# Altium schematic symbol library ic-soc-cpu.SchLib: 3 symbols
Pins are listed as number, name and electrical type; pins without a type are passive.

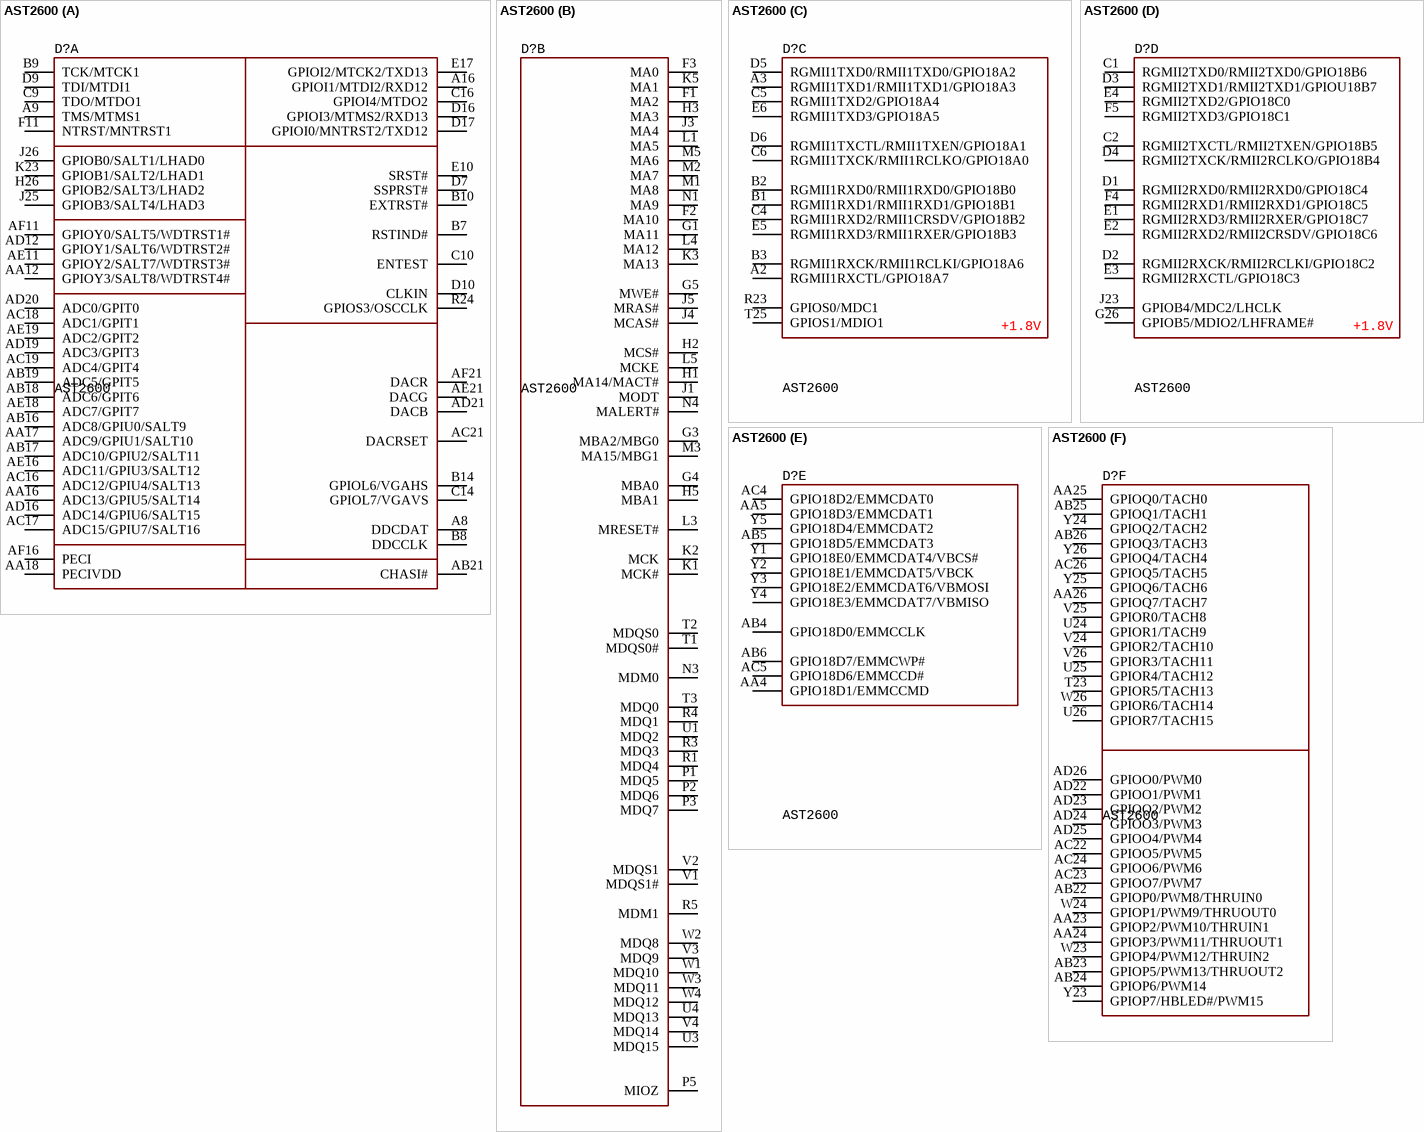
[diagram p0: symbol AST2600]

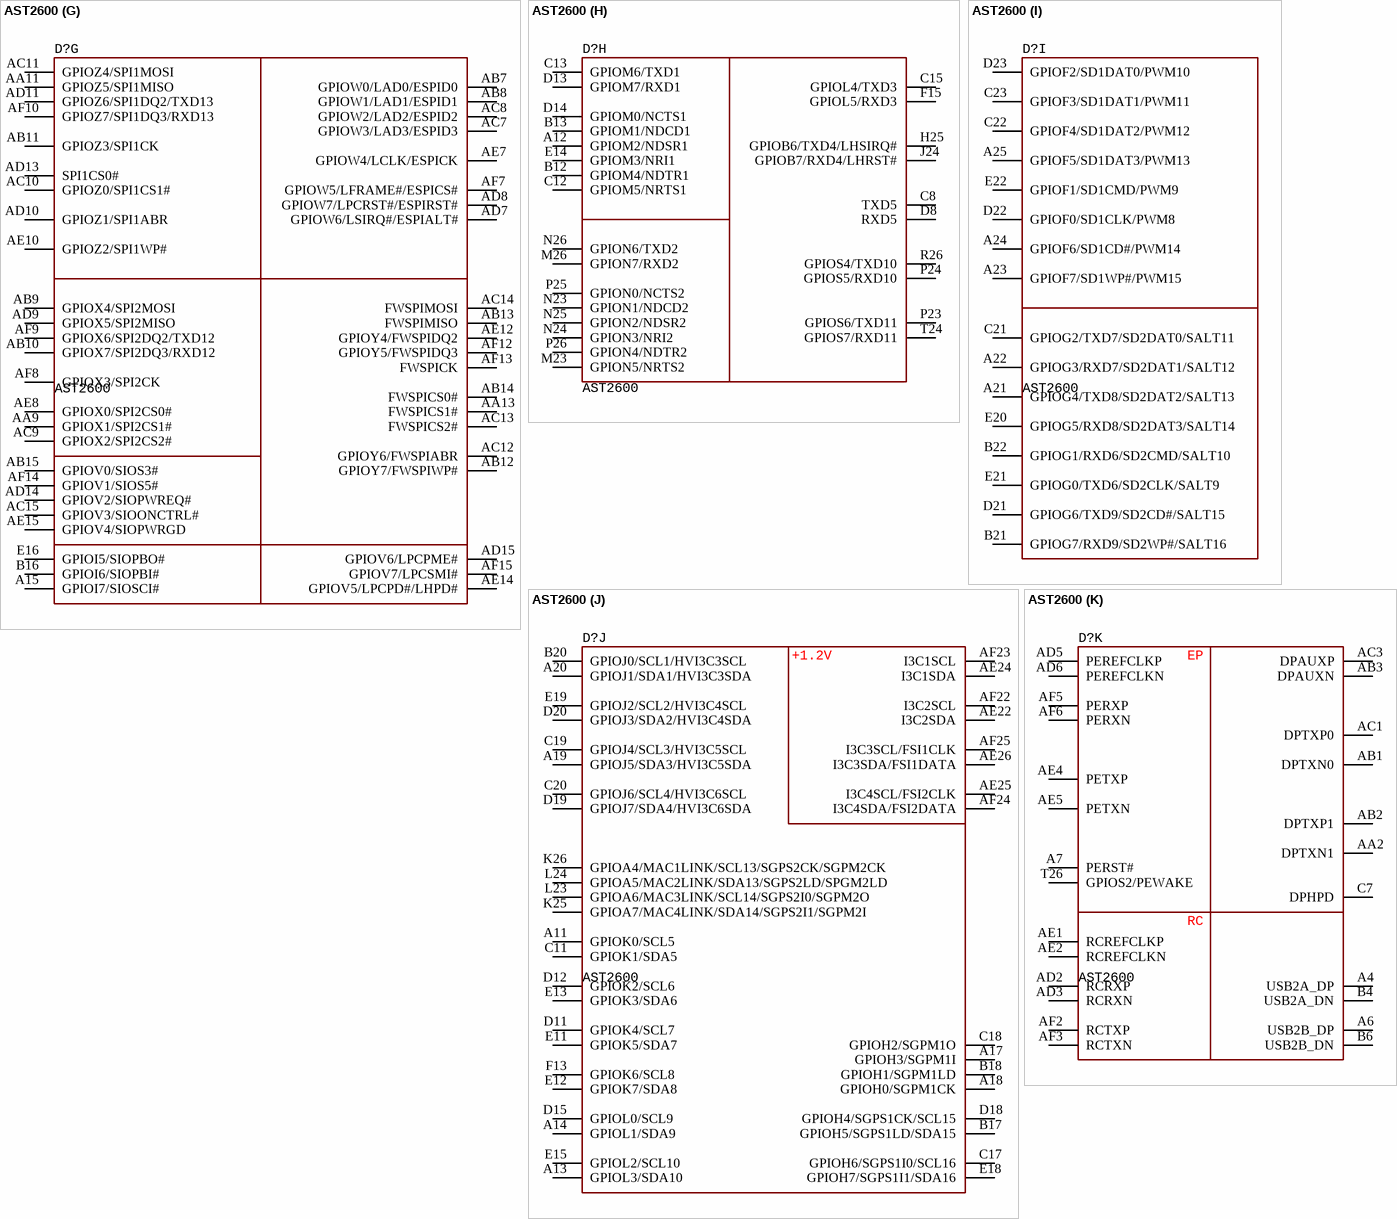
[diagram p1: symbol AST2600]

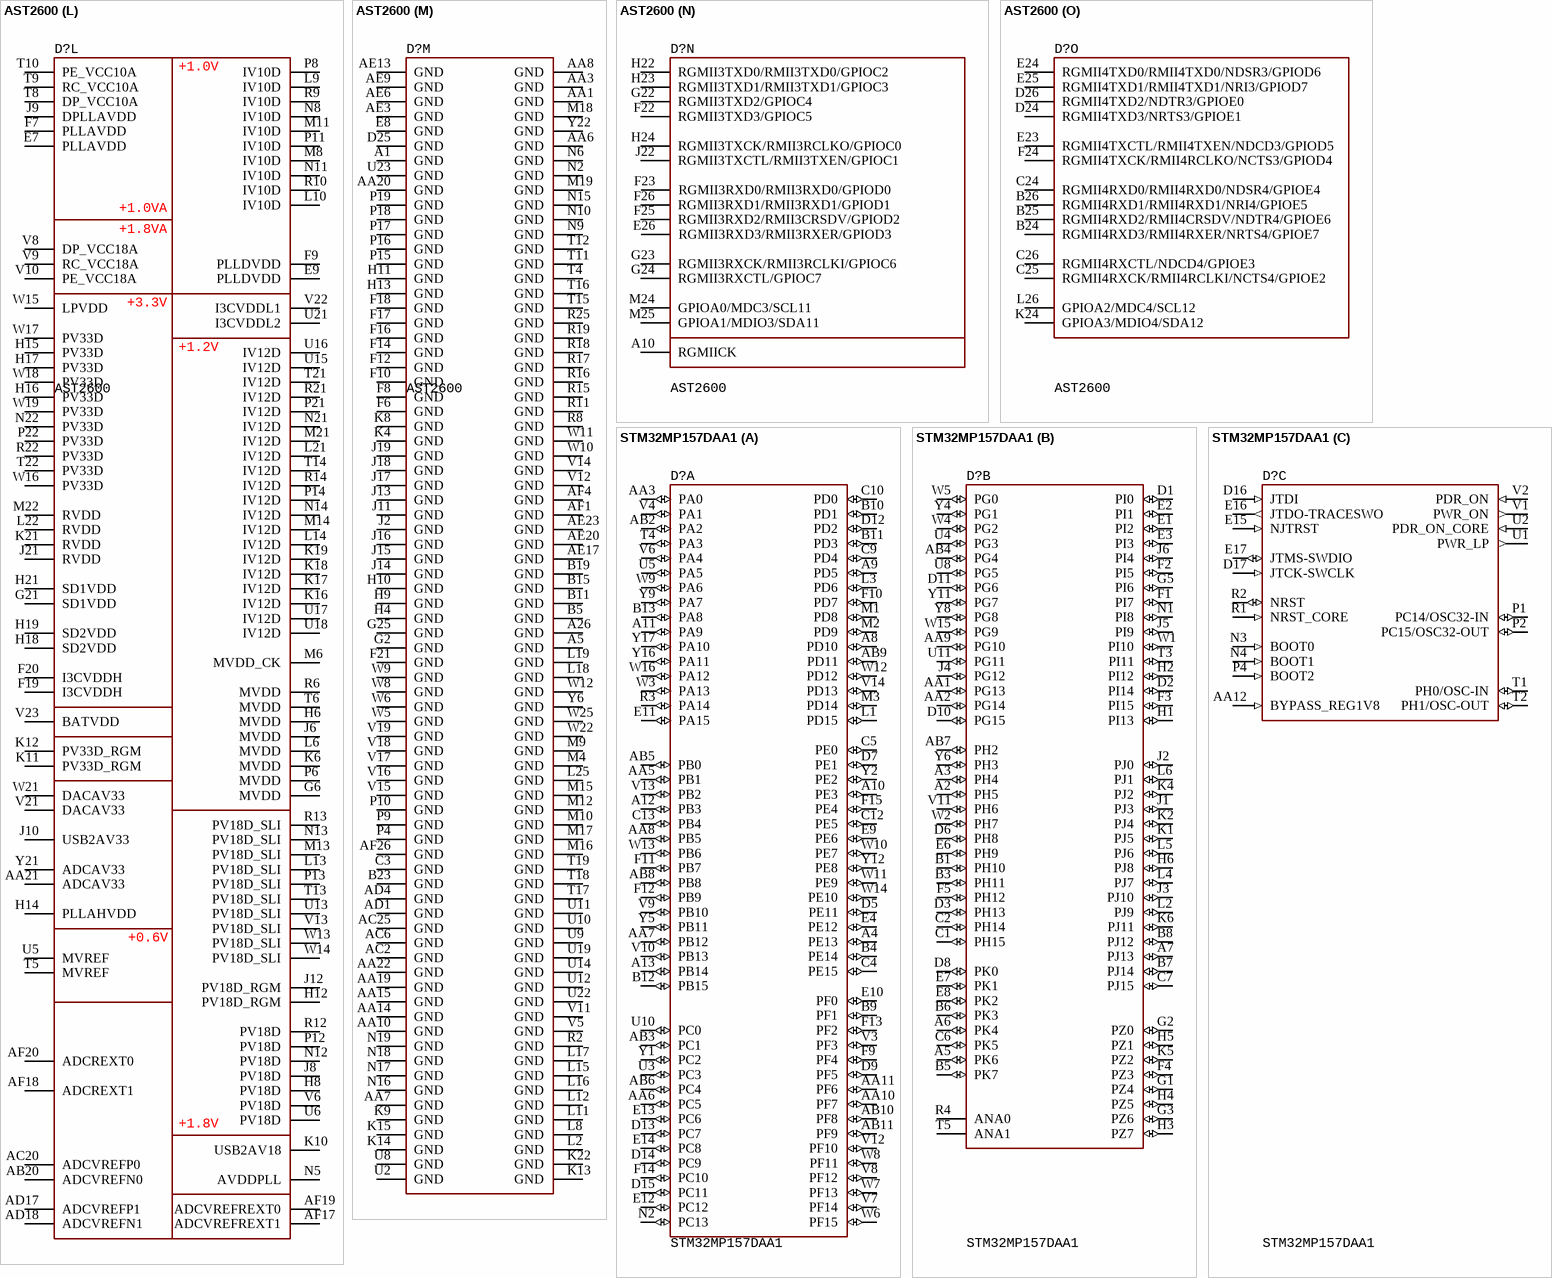
[diagram p2: symbols AST2600 to STM32MP157DAA1]

## AST2600
designator D?
ARM SoC, Cortex-A7/M3, 1.2GHz, TFBGA-624, 0...+95°C; Manufacturer: ASPEED; HelpURL: http://www.aspeedtech.com/server_ast2600/; Package: 624-TFBGA (21x21); Component Type: SoC and CPU; PartNumber: AST2600
footprint 624-TFBGA (21x21, pitch 0.8)
part A pins: A8 DDCDAT, A9 TMS/MTMS1, A16 GPIOI1/MTDI2/RXD12, AA12 GPIOY3/SALT8/WDTRST4#, AA16 ADC13/GPIU5/SALT14, AA17 ADC9/GPIU1/SALT10, AA18 PECIVDD, AB16 ADC8/GPIU0/SALT9, AB17 ADC10/GPIU2/SALT11, AB18 ADC6/GPIT6, AB19 ADC5/GPIT5, AB21 CHASI#, AC16 ADC12/GPIU4/SALT13, AC17 ADC15/GPIU7/SALT16, AC18 ADC1/GPIT1, AC19 ADC4/GPIT4, AC21 DACRSET, AD12 GPIOY1/SALT6/WDTRST2#, AD16 ADC14/GPIU6/SALT15, AD19 ADC3/GPIT3, AD20 ADC0/GPIT0, AD21 DACB, AE11 GPIOY2/SALT7/WDTRST3#, AE16 ADC11/GPIU3/SALT12, AE18 ADC7/GPIT7, AE19 ADC2/GPIT2, AE21 DACG, AF11 GPIOY0/SALT5/WDTRST1#, AF16 PECI, AF21 DACR, B7 RSTIND#, B8 DDCCLK, B9 TCK/MTCK1, B10 EXTRST#, B14 GPIOL6/VGAHS, C9 TDO/MTDO1, C10 ENTEST, C14 GPIOL7/VGAVS, C16 GPIOI4/MTDO2, D7 SSPRST#, D9 TDI/MTDI1, D10 CLKIN, D16 GPIOI3/MTMS2/RXD13, D17 GPIOI0/MNTRST2/TXD12, E10 SRST#, E17 GPIOI2/MTCK2/TXD13, F11 NTRST/MNTRST1, H26 GPIOB2/SALT3/LHAD2, J25 GPIOB3/SALT4/LHAD3, J26 GPIOB0/SALT1/LHAD0, K23 GPIOB1/SALT2/LHAD1, R24 GPIOS3/OSCCLK
part B pins: F1 MA2, F2 MA10, F3 MA0, G1 MA11, G3 MBA2/MBG0, G4 MBA0, G5 MWE#, H1 MA14/MACT#, H2 MCS#, H3 MA3, H5 MBA1, J1 MODT, J3 MA4, J4 MCAS#, J5 MRAS#, K1 MCK#, K2 MCK, K3 MA13, K5 MA1, L1 MA5, L3 MRESET#, L4 MA12, L5 MCKE, M1 MA8, M2 MA7, M3 MA15/MBG1, M5 MA6, N1 MA9, N3 MDM0, N4 MALERT#, P1 MDQ5, P2 MDQ6, P3 MDQ7, P5 MIOZ, R1 MDQ4, R3 MDQ3, R4 MDQ1, R5 MDM1, T1 MDQS0#, T2 MDQS0, T3 MDQ0, U1 MDQ2, U3 MDQ15, U4 MDQ13, V1 MDQS1#, V2 MDQS1, V3 MDQ9, V4 MDQ14, W1 MDQ10, W2 MDQ8, W3 MDQ11, W4 MDQ12
part C pins: A2 RGMII1RXCTL/GPIO18A7, A3 RGMII1TXD1/RMII1TXD1/GPIO18A3, B1 RGMII1RXD1/RMII1RXD1/GPIO18B1, B2 RGMII1RXD0/RMII1RXD0/GPIO18B0, B3 RGMII1RXCK/RMII1RCLKI/GPIO18A6, C4 RGMII1RXD2/RMII1CRSDV/GPIO18B2, C5 RGMII1TXD2/GPIO18A4, C6 RGMII1TXCK/RMII1RCLKO/GPIO18A0, D5 RGMII1TXD0/RMII1TXD0/GPIO18A2, D6 RGMII1TXCTL/RMII1TXEN/GPIO18A1, E5 RGMII1RXD3/RMII1RXER/GPIO18B3, E6 RGMII1TXD3/GPIO18A5, R23 GPIOS0/MDC1, T25 GPIOS1/MDIO1
part D pins: C1 RGMII2TXD0/RMII2TXD0/GPIO18B6, C2 RGMII2TXCTL/RMII2TXEN/GPIO18B5, D1 RGMII2RXD0/RMII2RXD0/GPIO18C4, D2 RGMII2RXCK/RMII2RCLKI/GPIO18C2, D3 RGMII2TXD1/RMII2TXD1/GPIOU18B7, D4 RGMII2TXCK/RMII2RCLKO/GPIO18B4, E1 RGMII2RXD3/RMII2RXER/GPIO18C7, E2 RGMII2RXD2/RMII2CRSDV/GPIO18C6, E3 RGMII2RXCTL/GPIO18C3, E4 RGMII2TXD2/GPIO18C0, F4 RGMII2RXD1/RMII2RXD1/GPIO18C5, F5 RGMII2TXD3/GPIO18C1, G26 GPIOB5/MDIO2/LHFRAME#, J23 GPIOB4/MDC2/LHCLK
part E pins: AA4 GPIO18D1/EMMCCMD, AA5 GPIO18D3/EMMCDAT1, AB4 GPIO18D0/EMMCCLK, AB5 GPIO18D5/EMMCDAT3, AB6 GPIO18D7/EMMCWP#, AC4 GPIO18D2/EMMCDAT0, AC5 GPIO18D6/EMMCCD#, Y1 GPIO18E0/EMMCDAT4/VBCS#, Y2 GPIO18E1/EMMCDAT5/VBCK, Y3 GPIO18E2/EMMCDAT6/VBMOSI, Y4 GPIO18E3/EMMCDAT7/VBMISO, Y5 GPIO18D4/EMMCDAT2
part F pins: AA23 GPIOP2/PWM10/THRUIN1, AA24 GPIOP3/PWM11/THRUOUT1, AA25 GPIOQ0/TACH0, AA26 GPIOQ7/TACH7, AB22 GPIOP0/PWM8/THRUIN0, AB23 GPIOP5/PWM13/THRUOUT2, AB24 GPIOP6/PWM14, AB25 GPIOQ1/TACH1, AB26 GPIOQ3/TACH3, AC22 GPIOO5/PWM5, AC23 GPIOO7/PWM7, AC24 GPIOO6/PWM6, AC26 GPIOQ5/TACH5, AD22 GPIOO1/PWM1, AD23 GPIOO2/PWM2, AD24 GPIOO3/PWM3, AD25 GPIOO4/PWM4, AD26 GPIOO0/PWM0, T23 GPIOR5/TACH13, U24 GPIOR1/TACH9, U25 GPIOR4/TACH12, U26 GPIOR7/TACH15, V24 GPIOR2/TACH10, V25 GPIOR0/TACH8, V26 GPIOR3/TACH11, W23 GPIOP4/PWM12/THRUIN2, W24 GPIOP1/PWM9/THRUOUT0, W26 GPIOR6/TACH14, Y23 GPIOP7/HBLED#/PWM15, Y24 GPIOQ2/TACH2, Y25 GPIOQ6/TACH6, Y26 GPIOQ4/TACH4
part G pins: A15 GPIOI7/SIOSCI#, AA9 GPIOX1/SPI2CS1#, AA11 GPIOZ5/SPI1MISO, AA13 FWSPICS1#, AB7 GPIOW0/LAD0/ESPID0, AB8 GPIOW1/LAD1/ESPID1, AB9 GPIOX4/SPI2MOSI, AB10 GPIOX7/SPI2DQ3/RXD12, AB11 GPIOZ3/SPI1CK, AB12 GPIOY7/FWSPIWP#, AB13 FWSPIMISO, AB14 FWSPICS0#, AB15 GPIOV0/SIOS3#, AC7 GPIOW3/LAD3/ESPID3, AC8 GPIOW2/LAD2/ESPID2, AC9 GPIOX2/SPI2CS2#, AC10 GPIOZ0/SPI1CS1#, AC11 GPIOZ4/SPI1MOSI, AC12 GPIOY6/FWSPIABR, AC13 FWSPICS2#, AC14 FWSPIMOSI, AC15 GPIOV3/SIOONCTRL#, AD7 GPIOW6/LSIRQ#/ESPIALT#, AD8 GPIOW7/LPCRST#/ESPIRST#, AD9 GPIOX5/SPI2MISO, AD10 GPIOZ1/SPI1ABR, AD11 GPIOZ6/SPI1DQ2/TXD13, AD13 SPI1CS0#, AD14 GPIOV2/SIOPWREQ#, AD15 GPIOV6/LPCPME#, AE7 GPIOW4/LCLK/ESPICK, AE8 GPIOX0/SPI2CS0#, AE10 GPIOZ2/SPI1WP#, AE12 GPIOY4/FWSPIDQ2, AE14 GPIOV5/LPCPD#/LHPD#, AE15 GPIOV4/SIOPWRGD, AF7 GPIOW5/LFRAME#/ESPICS#, AF8 GPIOX3/SPI2CK, AF9 GPIOX6/SPI2DQ2/TXD12, AF10 GPIOZ7/SPI1DQ3/RXD13, AF12 GPIOY5/FWSPIDQ3, AF13 FWSPICK, AF14 GPIOV1/SIOS5#, AF15 GPIOV7/LPCSMI#, B16 GPIOI6/SIOPBI#, E16 GPIOI5/SIOPBO#
part H pins: A12 GPIOM2/NDSR1, B12 GPIOM4/NDTR1, B13 GPIOM1/NDCD1, C8 TXD5, C12 GPIOM5/NRTS1, C13 GPIOM6/TXD1, C15 GPIOL4/TXD3, D8 RXD5, D13 GPIOM7/RXD1, D14 GPIOM0/NCTS1, E14 GPIOM3/NRI1, F15 GPIOL5/RXD3, H25 GPIOB6/TXD4/LHSIRQ#, J24 GPIOB7/RXD4/LHRST#, M23 GPION5/NRTS2, M26 GPION7/RXD2, N23 GPION1/NDCD2, N24 GPION3/NRI2, N25 GPION2/NDSR2, N26 GPION6/TXD2, P23 GPIOS6/TXD11, P24 GPIOS5/RXD10, P25 GPION0/NCTS2, P26 GPION4/NDTR2, R26 GPIOS4/TXD10, T24 GPIOS7/RXD11
part I pins: A21 GPIOG4/TXD8/SD2DAT2/SALT13, A22 GPIOG3/RXD7/SD2DAT1/SALT12, A23 GPIOF7/SD1WP#/PWM15, A24 GPIOF6/SD1CD#/PWM14, A25 GPIOF5/SD1DAT3/PWM13, B21 GPIOG7/RXD9/SD2WP#/SALT16, B22 GPIOG1/RXD6/SD2CMD/SALT10, C21 GPIOG2/TXD7/SD2DAT0/SALT11, C22 GPIOF4/SD1DAT2/PWM12, C23 GPIOF3/SD1DAT1/PWM11, D21 GPIOG6/TXD9/SD2CD#/SALT15, D22 GPIOF0/SD1CLK/PWM8, D23 GPIOF2/SD1DAT0/PWM10, E20 GPIOG5/RXD8/SD2DAT3/SALT14, E21 GPIOG0/TXD6/SD2CLK/SALT9, E22 GPIOF1/SD1CMD/PWM9
part J pins: A11 GPIOK0/SCL5, A13 GPIOL3/SDA10, A14 GPIOL1/SDA9, A17 GPIOH3/SGPM1I, A18 GPIOH0/SGPM1CK, A19 GPIOJ5/SDA3/HVI3C5SDA, A20 GPIOJ1/SDA1/HVI3C3SDA, AE22 I3C2SDA, AE24 I3C1SDA, AE25 I3C4SCL/FSI2CLK, AE26 I3C3SDA/FSI1DATA, AF22 I3C2SCL, AF23 I3C1SCL, AF24 I3C4SDA/FSI2DATA, AF25 I3C3SCL/FSI1CLK, B17 GPIOH5/SGPS1LD/SDA15, B18 GPIOH1/SGPM1LD, B20 GPIOJ0/SCL1/HVI3C3SCL, C11 GPIOK1/SDA5, C17 GPIOH6/SGPS1I0/SCL16, C18 GPIOH2/SGPM1O, C19 GPIOJ4/SCL3/HVI3C5SCL, C20 GPIOJ6/SCL4/HVI3C6SCL, D11 GPIOK4/SCL7, D12 GPIOK2/SCL6, D15 GPIOL0/SCL9, D18 GPIOH4/SGPS1CK/SCL15, D19 GPIOJ7/SDA4/HVI3C6SDA, D20 GPIOJ3/SDA2/HVI3C4SDA, E11 GPIOK5/SDA7, E12 GPIOK7/SDA8, E13 GPIOK3/SDA6, E15 GPIOL2/SCL10, E18 GPIOH7/SGPS1I1/SDA16, E19 GPIOJ2/SCL2/HVI3C4SCL, F13 GPIOK6/SCL8, K25 GPIOA7/MAC4LINK/SDA14/SGPS2I1/SGPM2I, K26 GPIOA4/MAC1LINK/SCL13/SGPS2CK/SGPM2CK, L23 GPIOA6/MAC3LINK/SCL14/SGPS2I0/SGPM2O, L24 GPIOA5/MAC2LINK/SDA13/SGPS2LD/SPGM2LD
part K pins: A4 USB2A_DP, A6 USB2B_DP, A7 PERST#, AA2 DPTXN1, AB1 DPTXN0, AB2 DPTXP1, AB3 DPAUXN, AC1 DPTXP0, AC3 DPAUXP, AD2 RCRXP, AD3 RCRXN, AD5 PEREFCLKP, AD6 PEREFCLKN, AE1 RCREFCLKP, AE2 RCREFCLKN, AE4 PETXP, AE5 PETXN, AF2 RCTXP, AF3 RCTXN, AF5 PERXP, AF6 PERXN, B4 USB2A_DN, B6 USB2B_DN, C7 DPHPD, T26 GPIOS2/PEWAKE
part L pins: AA21 ADCAV33, AB20 ADCVREFN0, AC20 ADCVREFP0, AD17 ADCVREFP1, AD18 ADCVREFN1, AF17 ADCVREFREXT1, AF18 ADCREXT1, AF19 ADCVREFREXT0, AF20 ADCREXT0, E7 PLLAVDD, E9 PLLDVDD, F7 PLLAVDD, F9 PLLDVDD, F19 I3CVDDH, F20 I3CVDDH, G6 MVDD, G21 SD1VDD, H6 MVDD, H8 PV18D, H12 PV18D_RGM, H14 PLLAHVDD, H15 PV33D, H16 PV33D, H17 PV33D, H18 SD2VDD, H19 SD2VDD, H21 SD1VDD, J6 MVDD, J8 PV18D, J9 DPLLAVDD, J10 USB2AV33, J12 PV18D_RGM, J21 RVDD, K6 MVDD, K10 USB2AV18, K11 PV33D_RGM, K12 PV33D_RGM, K16 IV12D, K17 IV12D, K18 IV12D, K19 IV12D, K21 RVDD, L6 MVDD, L9 IV10D, L10 IV10D, L13 PV18D_SLI, L14 IV12D, L21 IV12D, L22 RVDD, M6 MVDD_CK, M8 IV10D, M11 IV10D, M13 PV18D_SLI, M14 IV12D, M21 IV12D, M22 RVDD, N5 AVDDPLL, N8 IV10D, N11 IV10D, N12 PV18D, N13 PV18D_SLI, N14 IV12D, N21 IV12D, N22 PV33D, P6 MVDD, P8 IV10D, P11 IV10D, P12 PV18D, P13 PV18D_SLI, P14 IV12D, P21 IV12D, P22 PV33D, R6 MVDD, R9 IV10D, R10 IV10D, R12 PV18D, R13 PV18D_SLI, R14 IV12D, R21 IV12D, R22 PV33D, T5 MVREF, T6 MVDD, T8 DP_VCC10A, T9 RC_VCC10A, T10 PE_VCC10A, T13 PV18D_SLI, T14 IV12D, T21 IV12D, T22 PV33D, U5 MVREF, U6 PV18D, U13 PV18D_SLI, U15 IV12D, U16 IV12D, U17 IV12D, U18 IV12D, U21 I3CVDDL2, V6 PV18D, V8 DP_VCC18A, V9 RC_VCC18A, V10 PE_VCC18A, V13 PV18D_SLI, V21 DACAV33, V22 I3CVDDL1, V23 BATVDD, W13 PV18D_SLI, W14 PV18D_SLI, W15 LPVDD, W16 PV33D, W17 PV33D, W18 PV33D, W19 PV33D, W21 DACAV33, Y21 ADCAV33
part M pins: A1 GND, A5 GND, A26 GND, AA1 GND, AA3 GND, AA6 GND, AA7 GND, AA8 GND, AA10 GND, AA14 GND, AA15 GND, AA19 GND, AA20 GND, AA22 GND, AC2 GND, AC6 GND, AC25 GND, AD1 GND, AD4 GND, AE3 GND, AE6 GND, AE9 GND, AE13 GND, AE17 GND, AE20 GND, AE23 GND, AF1 GND, AF4 GND, AF26 GND, B5 GND, B11 GND, B15 GND, B19 GND, B23 GND, C3 GND, D25 GND, E8 GND, F6 GND, F8 GND, F10 GND, F12 GND, F14 GND, F16 GND, F17 GND, F18 GND, F21 GND, G2 GND, G25 GND, H4 GND, H9 GND, H10 GND, H11 GND, H13 GND, J2 GND, J11 GND, J13 GND, J14 GND, J15 GND, J16 GND, J17 GND, J18 GND, J19 GND, K4 GND, K8 GND, K9 GND, K13 GND, K14 GND, K15 GND, K22 GND, L2 GND, L8 GND, L11 GND, L12 GND, L15 GND, L16 GND, L17 GND, L18 GND, L19 GND, L25 GND, M4 GND, M9 GND, M10 GND, M12 GND, M15 GND, M16 GND, M17 GND, M18 GND, M19 GND, N2 GND, N6 GND, N9 GND, N10 GND, N15 GND, N16 GND, N17 GND, N18 GND, N19 GND, P4 GND, P9 GND, P10 GND, P15 GND, P16 GND, P17 GND, P18 GND, P19 GND, R2 GND, R8 GND, R11 GND, R15 GND, R16 GND, R17 GND, R18 GND, R19 GND, R25 GND, T4 GND, T11 GND, T12 GND, T15 GND, T16 GND, T17 GND, T18 GND, T19 GND, U2 GND, U8 GND, U9 GND, U10 GND, U11 GND, U12 GND, U14 GND, U19 GND, U22 GND, U23 GND, V5 GND, V11 GND, V12 GND, V14 GND, V15 GND, V16 GND, V17 GND, V18 GND, V19 GND, W5 GND, W6 GND, W8 GND, W9 GND, W10 GND, W11 GND, W12 GND, W22 GND, W25 GND, Y6 GND, Y22 GND
part N pins: A10 RGMIICK, E26 RGMII3RXD3/RMII3RXER/GPIOD3, F22 RGMII3TXD3/GPIOC5, F23 RGMII3RXD0/RMII3RXD0/GPIOD0, F25 RGMII3RXD2/RMII3CRSDV/GPIOD2, F26 RGMII3RXD1/RMII3RXD1/GPIOD1, G22 RGMII3TXD2/GPIOC4, G23 RGMII3RXCK/RMII3RCLKI/GPIOC6, G24 RGMII3RXCTL/GPIOC7, H22 RGMII3TXD0/RMII3TXD0/GPIOC2, H23 RGMII3TXD1/RMII3TXD1/GPIOC3, H24 RGMII3TXCK/RMII3RCLKO/GPIOC0, J22 RGMII3TXCTL/RMII3TXEN/GPIOC1, M24 GPIOA0/MDC3/SCL11, M25 GPIOA1/MDIO3/SDA11
part O pins: B24 RGMII4RXD3/RMII4RXER/NRTS4/GPIOE7, B25 RGMII4RXD2/RMII4CRSDV/NDTR4/GPIOE6, B26 RGMII4RXD1/RMII4RXD1/NRI4/GPIOE5, C24 RGMII4RXD0/RMII4RXD0/NDSR4/GPIOE4, C25 RGMII4RXCK/RMII4RCLKI/NCTS4/GPIOE2, C26 RGMII4RXCTL/NDCD4/GPIOE3, D24 RGMII4TXD3/NRTS3/GPIOE1, D26 RGMII4TXD2/NDTR3/GPIOE0, E23 RGMII4TXCTL/RMII4TXEN/NDCD3/GPIOD5, E24 RGMII4TXD0/RMII4TXD0/NDSR3/GPIOD6, E25 RGMII4TXD1/RMII4TXD1/NRI3/GPIOD7, F24 RGMII4TXCK/RMII4RCLKO/NCTS3/GPIOD4, K24 GPIOA3/MDIO4/SDA12, L26 GPIOA2/MDC4/SCL12
part C text: +1.8V
part D text: +1.8V
part J text: +1.2V
part K text: EP; RC
part L text: +1.0V; +1.0VA; +1.8VA; +3.3V; +1.2V; +0.6V; +1.8V

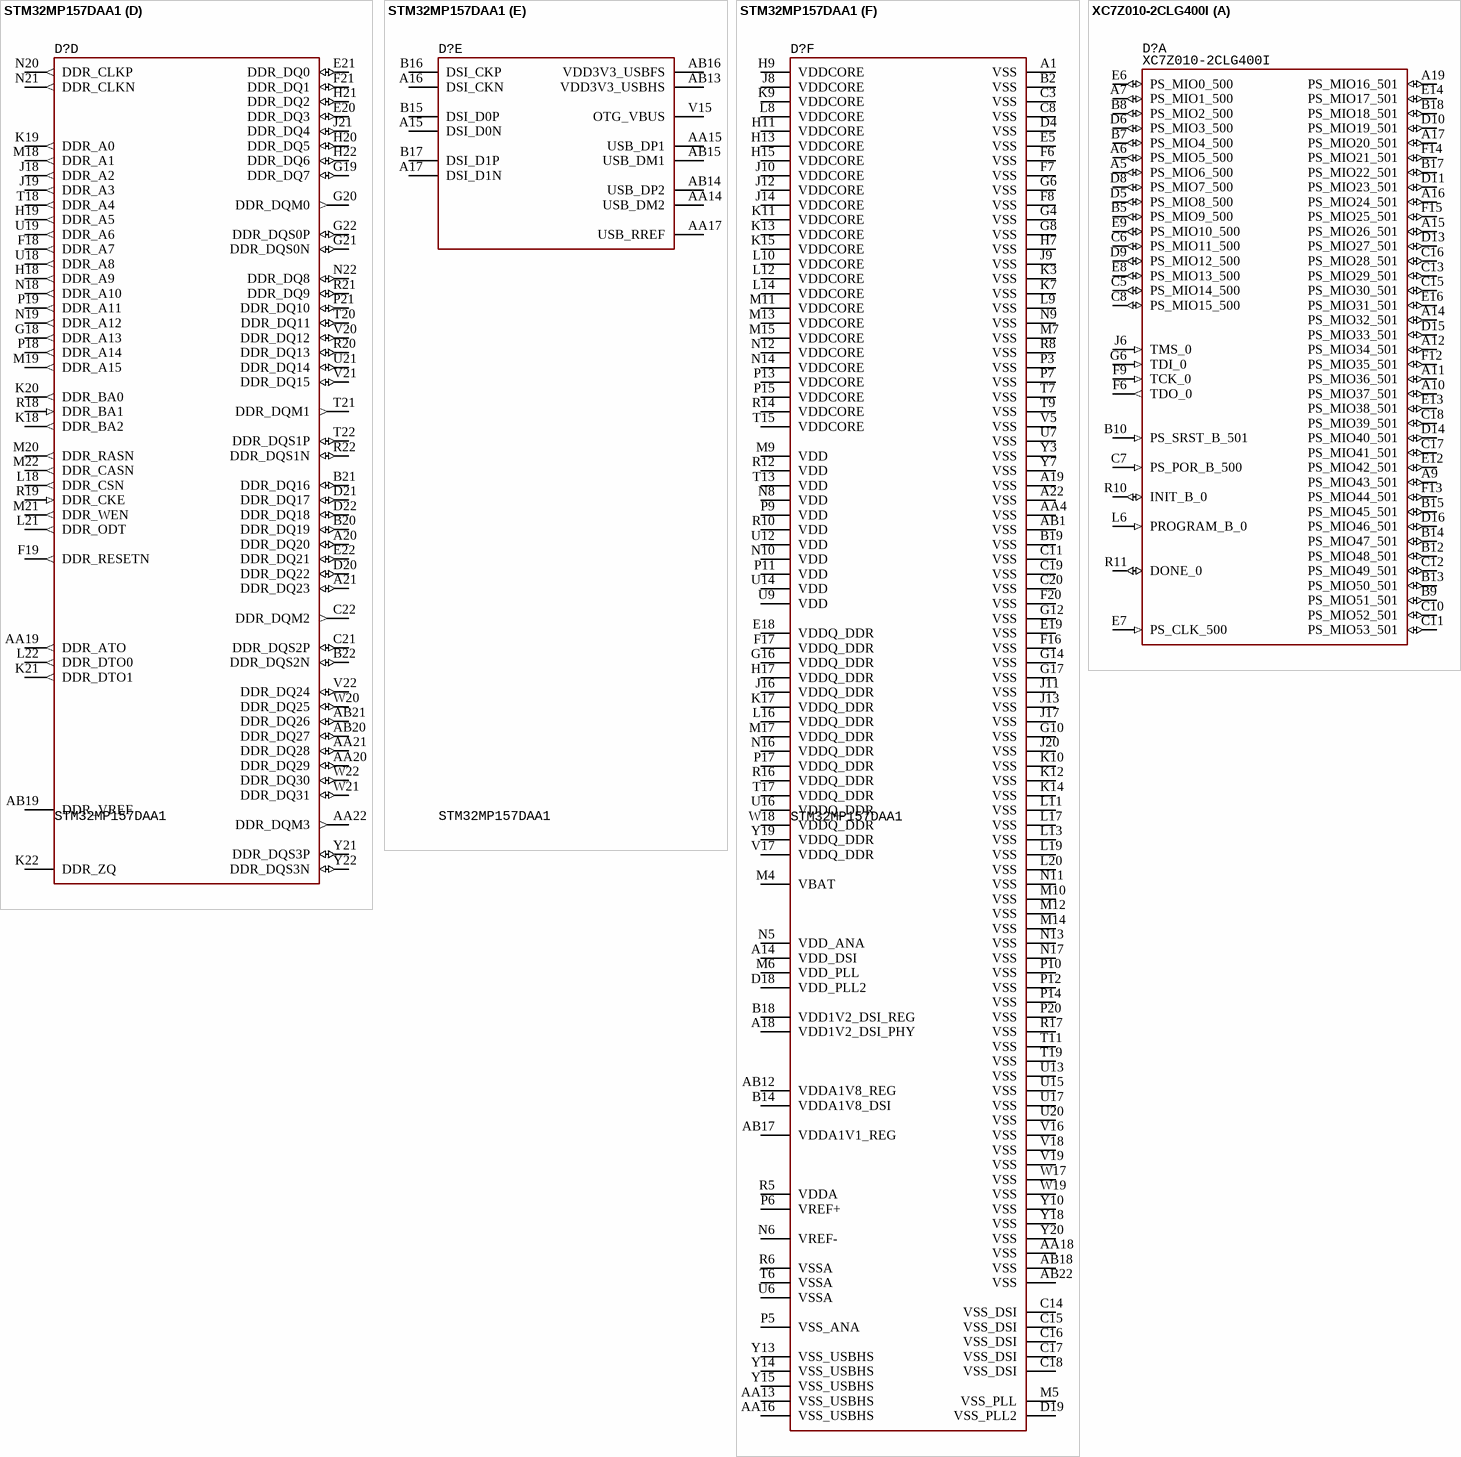
[diagram p3: symbols STM32MP157DAA1 to XC7Z010-2CLG400I]

## STM32MP157DAA1
designator D?  PartNumber: STM32MP157DAA1
Cortex-A7/M4, 800 MHz, 3D GPU, TFT, 448-LFBGA; Manufacturer: STMicroelectronics; ValueManufacturerPartNumber: IC ARM SoC, 2 core, 32-Bit, Cortex-A7/M4, 800MHz, DDR3, 3.3V, -40...+85°C, 448-LFBGA; Supply: 3.3V; Speed: 800MHz; CoreSize: 2 core, 32-Bit; TypeMemory: DDR3; HelpURL: https://www.digikey.com/en/products/detail/stmicroelectronics/STM32MP157DAA1/11591228; Package: 448-LFBGA; ComponentType: IC ARM SoC; Temperature: -40...+85°C; CoreProcessor: Cortex-A7/M4
footprint 448-LFBGA (18x18, pitch 0.8)
part A pins: A4 PE13 (io), A8 PD10 (io), A9 PD5 (io), A10 PE3 (io), A11 PA9 (io), A12 PB3 (io), A13 PB14 (io), AA3 PA0 (io), AA5 PB1 (io), AA6 PC5 (io), AA7 PB12 (io), AA8 PB5 (io), AA10 PF7 (io), AA11 PF6 (io), AB2 PA2 (io), AB3 PC1 (io), AB5 PB0 (io), AB6 PC4 (io), AB8 PB8 (io), AB9 PD11 (io), AB10 PF8 (io), AB11 PF9 (io), B4 PE14 (io), B9 PF1 (io), B10 PD1 (io), B11 PD3 (io), B12 PB15 (io), B13 PA8 (io), C4 PE15 (io), C5 PE0 (io), C9 PD4 (io), C10 PD0 (io), C12 PE5 (io), C13 PB4 (io), D5 PE11 (io), D7 PE1 (io), D9 PF5 (io), D12 PD2 (io), D13 PC7 (io), D14 PC9 (io), D15 PC11 (io), E4 PE12 (io), E9 PE6 (io), E10 PF0 (io), E11 PA15 (io), E12 PC12 (io), E13 PC6 (io), E14 PC8 (io), F9 PF4 (io), F10 PD7 (io), F11 PB7 (io), F12 PB9 (io), F13 PF2 (io), F14 PC10 (io), F15 PE4 (io), L1 PD15 (io), L3 PD6 (io), M1 PD8 (io), M2 PD9 (io), M3 PD14 (io), N2 PC13 (io), R3 PA14 (io), T4 PA3 (io), U3 PC3 (io), U5 PA5 (io), U10 PC0 (io), V3 PF3 (io), V4 PA1 (io), V6 PA4 (io), V7 PF14 (io), V8 PF12 (io), V9 PB10 (io), V10 PB13 (io), V12 PF10 (io), V13 PB2 (io), V14 PD13 (io), W3 PA13 (io), W6 PF15 (io), W7 PF13 (io), W8 PF11 (io), W9 PA6 (io), W10 PE7 (io), W11 PE9 (io), W12 PD12 (io), W13 PB6 (io), W14 PE10 (io), W16 PA12 (io), Y1 PC2 (io), Y2 PE2 (io), Y5 PB11 (io), Y9 PA7 (io), Y12 PE8 (io), Y16 PA11 (io), Y17 PA10 (io)
part B pins: A2 PH5 (io), A3 PH4 (io), A5 PK6 (io), A6 PK4 (io), A7 PJ13 (io), AA1 PG13 (io), AA2 PG14 (io), AA9 PG10 (io), AB4 PG4 (io), AB7 PH2 (io), B1 PH10 (io), B3 PH11 (io), B5 PK7 (io), B6 PK3 (io), B7 PJ14 (io), B8 PJ12 (io), C1 PH15 (io), C2 PH14 (io), C6 PK5 (io), C7 PJ15 (io), D1 PI0 (io), D2 PI14 (io), D3 PH13 (io), D6 PH8 (io), D8 PK0 (io), D10 PG15 (io), D11 PG6 (io), E1 PI2 (io), E2 PI1 (io), E3 PI3 (io), E6 PH9 (io), E7 PK1 (io), E8 PK2 (io), F1 PI7 (io), F2 PI5 (io), F3 PI15 (io), F4 PZ3 (io), F5 PH12 (io), G1 PZ4 (io), G2 PZ0 (io), G3 PZ6 (io), G5 PI6 (io), H1 PI13 (io), H2 PI12 (io), H3 PZ7 (io), H4 PZ5 (io), H5 PZ1 (io), H6 PJ8 (io), J1 PJ3 (io), J2 PJ0 (io), J3 PJ10 (io), J4 PG12 (io), J5 PI9 (io), J6 PI4 (io), K1 PJ5 (io), K2 PJ4 (io), K4 PJ2 (io), K5 PZ2 (io), K6 PJ11 (io), L2 PJ9 (io), L4 PJ7 (io), L5 PJ6 (io), L6 PJ1 (io), N1 PI8 (io), R4 ANA0, T3 PI11 (io), T5 ANA1, U4 PG3 (io), U8 PG5 (io), U11 PG11 (io), V11 PH6 (io), W1 PI10 (io), W2 PH7 (io), W4 PG2 (io), W5 PG0 (io), W15 PG9 (io), Y4 PG1 (io), Y6 PH3 (io), Y8 PG8 (io), Y11 PG7 (io)
part C pins: AA12 BYPASS_REG1V8 (in), D16 JTDI (in), D17 JTCK-SWCLK (in), E15 NJTRST (in), E16 JTDO-TRACESWO (out), E17 JTMS-SWDIO (io), N3 BOOT0 (in), N4 BOOT1 (in), P1 PC14/OSC32-IN (io), P2 PC15/OSC32-OUT (io), P4 BOOT2 (in), R1 NRST_CORE (in), R2 NRST (io), T1 PH0/OSC-IN (io), T2 PH1/OSC-OUT (io), U1 PWR_LP (out), U2 PDR_ON_CORE (in), V1 PWR_ON (out), V2 PDR_ON (in)
part D pins: A20 DDR_DQ20 (io), A21 DDR_DQ23 (io), AA19 DDR_ATO (out), AA20 DDR_DQ29 (io), AA21 DDR_DQ28 (io), AA22 DDR_DQM3 (out), AB19 DDR_VREF, AB20 DDR_DQ27 (io), AB21 DDR_DQ26 (io), B20 DDR_DQ19 (io), B21 DDR_DQ16 (io), B22 DDR_DQS2N (io), C21 DDR_DQS2P (io), C22 DDR_DQM2 (out), D20 DDR_DQ22 (io), D21 DDR_DQ17 (io), D22 DDR_DQ18 (io), E20 DDR_DQ3 (io), E21 DDR_DQ0 (io), E22 DDR_DQ21 (io), F18 DDR_A7 (out), F19 DDR_RESETN (out), F21 DDR_DQ1 (io), G18 DDR_A13 (out), G19 DDR_DQ7 (io), G20 DDR_DQM0 (out), G21 DDR_DQS0N (io), G22 DDR_DQS0P (io), H18 DDR_A9 (out), H19 DDR_A5 (out), H20 DDR_DQ5 (io), H21 DDR_DQ2 (io), H22 DDR_DQ6 (io), J18 DDR_A2 (out), J19 DDR_A3 (out), J21 DDR_DQ4 (io), K18 DDR_BA2 (out), K19 DDR_A0 (out), K20 DDR_BA0 (out), K21 DDR_DTO1 (out), K22 DDR_ZQ, L18 DDR_CSN (out), L21 DDR_ODT (out), L22 DDR_DTO0 (out), M18 DDR_A1 (out), M19 DDR_A15 (out), M20 DDR_RASN (out), M21 DDR_WEN (out), M22 DDR_CASN (out), N18 DDR_A10 (out), N19 DDR_A12 (out), N20 DDR_CLKP (out), N21 DDR_CLKN (out), N22 DDR_DQ8 (io), P18 DDR_A14 (out), P19 DDR_A11 (out), P21 DDR_DQ10 (io), R18 DDR_BA1 (in), R19 DDR_CKE (in), R20 DDR_DQ13 (io), R21 DDR_DQ9 (io), R22 DDR_DQS1N (io), T18 DDR_A4 (out), T20 DDR_DQ11 (io), T21 DDR_DQM1 (out), T22 DDR_DQS1P (io), U18 DDR_A8 (out), U19 DDR_A6 (out), U21 DDR_DQ14 (io), V20 DDR_DQ12 (io), V21 DDR_DQ15 (io), V22 DDR_DQ24 (io), W20 DDR_DQ25 (io), W21 DDR_DQ31 (io), W22 DDR_DQ30 (io), Y21 DDR_DQS3P (io), Y22 DDR_DQS3N (io)
part E pins: A15 DSI_D0N, A16 DSI_CKN, A17 DSI_D1N, AA14 USB_DM2, AA15 USB_DP1, AA17 USB_RREF, AB13 VDD3V3_USBHS (power), AB14 USB_DP2, AB15 USB_DM1, AB16 VDD3V3_USBFS (power), B15 DSI_D0P, B16 DSI_CKP, B17 DSI_D1P, V15 OTG_VBUS
part F pins: A1 VSS (power), A14 VDD_DSI (power), A18 VDD1V2_DSI_PHY (power), A19 VSS (power), A22 VSS (power), AA4 VSS (power), AA13 VSS_USBHS (power), AA16 VSS_USBHS (power), AA18 VSS (power), AB1 VSS (power), AB12 VDDA1V8_REG (power), AB17 VDDA1V1_REG (power), AB18 VSS (power), AB22 VSS (power), B2 VSS (power), B14 VDDA1V8_DSI (power), B18 VDD1V2_DSI_REG (power), B19 VSS (power), C3 VSS (power), C8 VSS (power), C11 VSS (power), C14 VSS_DSI (power), C15 VSS_DSI (power), C16 VSS_DSI (power), C17 VSS_DSI (power), C18 VSS_DSI (power), C19 VSS (power), C20 VSS (power), D4 VSS (power), D18 VDD_PLL2 (power), D19 VSS_PLL2 (power), E5 VSS (power), E18 VDDQ_DDR (power), E19 VSS (power), F6 VSS (power), F7 VSS (power), F8 VSS (power), F16 VSS (power), F17 VDDQ_DDR (power), F20 VSS (power), G4 VSS (power), G6 VSS (power), G8 VSS (power), G10 VSS (power), G12 VSS (power), G14 VSS (power), G16 VDDQ_DDR (power), G17 VSS (power), H7 VSS (power), H9 VDDCORE (power), H11 VDDCORE (power), H13 VDDCORE (power), H15 VDDCORE (power), H17 VDDQ_DDR (power), J8 VDDCORE (power), J9 VSS (power), J10 VDDCORE (power), J11 VSS (power), J12 VDDCORE (power), J13 VSS (power), J14 VDDCORE (power), J16 VDDQ_DDR (power), J17 VSS (power), J20 VSS (power), K3 VSS (power), K7 VSS (power), K9 VDDCORE (power), K10 VSS (power), K11 VDDCORE (power), K12 VSS (power), K13 VDDCORE (power), K14 VSS (power), K15 VDDCORE (power), K17 VDDQ_DDR (power), L8 VDDCORE (power), L9 VSS (power), L10 VDDCORE (power), L11 VSS (power), L12 VDDCORE (power), L13 VSS (power), L14 VDDCORE (power), L16 VDDQ_DDR (power), L17 VSS (power), L19 VSS (power), L20 VSS (power), M4 VBAT (power), M5 VSS_PLL (power), M6 VDD_PLL (power), M7 VSS (power), M9 VDD (power), M10 VSS (power), M11 VDDCORE (power), M12 VSS (power), M13 VDDCORE (power), M14 VSS (power), M15 VDDCORE (power), M17 VDDQ_DDR (power), N5 VDD_ANA (power), N6 VREF- (power), N8 VDD (power), N9 VSS (power), N10 VDD (power), N11 VSS (power), N12 VDDCORE (power), N13 VSS (power), N14 VDDCORE (power), N16 VDDQ_DDR (power), N17 VSS (power), P3 VSS (power), P5 VSS_ANA (power), P6 VREF+ (power), P7 VSS (power), P9 VDD (power), P10 VSS (power), P11 VDD (power), P12 VSS (power), P13 VDDCORE (power), P14 VSS (power), P15 VDDCORE (power), P17 VDDQ_DDR (power), P20 VSS (power), R5 VDDA (power), R6 VSSA (power), R8 VSS (power), R10 VDD (power), R12 VDD (power), R14 VDDCORE (power), R16 VDDQ_DDR (power), R17 VSS (power), T6 VSSA (power), T7 VSS (power), T9 VSS (power), T11 VSS (power), T13 VDD (power), T15 VDDCORE (power), T17 VDDQ_DDR (power), T19 VSS (power), U6 VSSA (power), U7 VSS (power), U9 VDD (power), U12 VDD (power), U13 VSS (power), U14 VDD (power), U15 VSS (power), U16 VDDQ_DDR (power), U17 VSS (power), U20 VSS (power), V5 VSS (power), V16 VSS (power), V17 VDDQ_DDR (power), V18 VSS (power), V19 VSS (power), W17 VSS (power), W18 VDDQ_DDR (power), W19 VSS (power), Y3 VSS (power), Y7 VSS (power), Y10 VSS (power), Y13 VSS_USBHS (power), Y14 VSS_USBHS (power), Y15 VSS_USBHS (power), Y18 VSS (power), Y19 VDDQ_DDR (power), Y20 VSS (power)

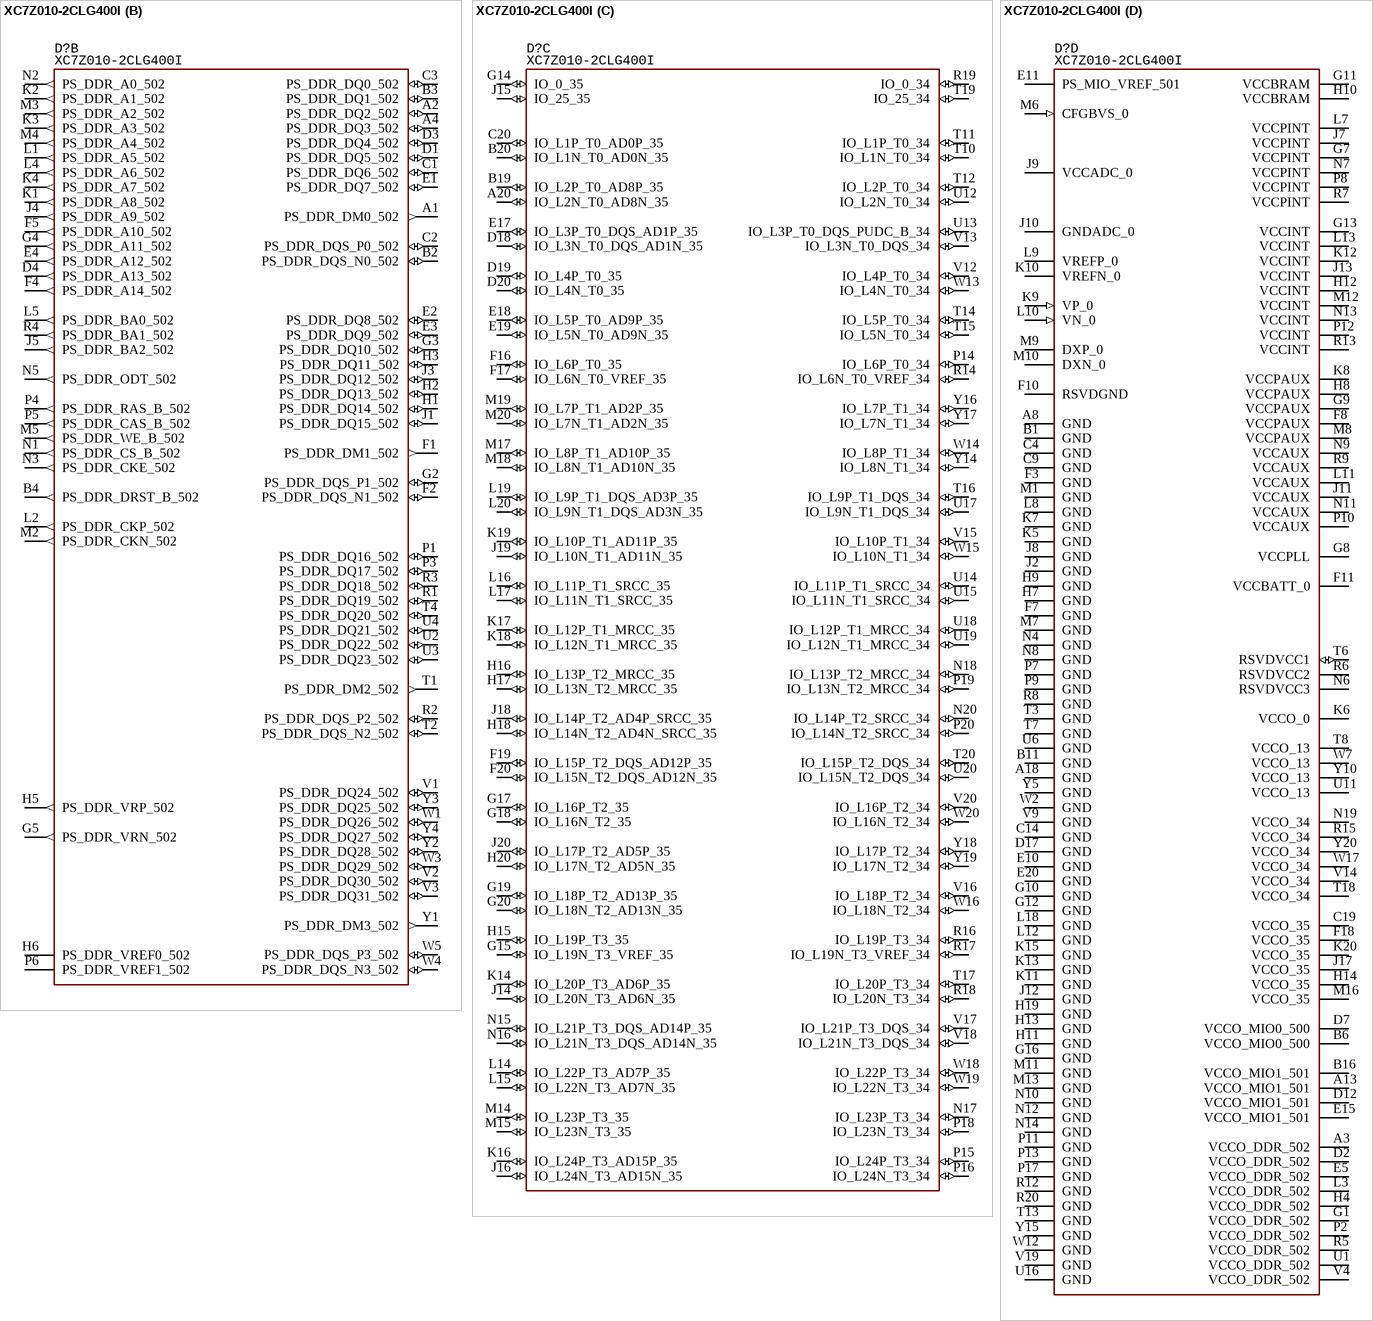
[diagram p4: symbol XC7Z010-2CLG400I]

## XC7Z010-2CLG400I
designator D?
SoC ARM + FPGA, 766MHz, 28k LUT, CSBGA-400, -40...+100°C; Manufacturer: Xilinx; HelpURL: https://eu.mouser.com/ProductDetail/Xilinx/XC7Z010-2CLG400I?qs=rrS6PyfT74cETvLeyRFHTA%3D%3D; Package: CSBGA-400; PartNumber: XC7Z010-2CLG400I
footprint 400-FBGA (pitch 0.8 mm)
part A pins: A5 PS_MIO6_500 (io), A6 PS_MIO5_500 (io), A7 PS_MIO1_500 (io), A9 PS_MIO43_501 (io), A10 PS_MIO37_501 (io), A11 PS_MIO36_501 (io), A12 PS_MIO34_501 (io), A14 PS_MIO32_501 (io), A15 PS_MIO26_501 (io), A16 PS_MIO24_501 (io), A17 PS_MIO20_501 (io), A19 PS_MIO16_501 (io), B5 PS_MIO9_500 (io), B7 PS_MIO4_500 (io), B8 PS_MIO2_500 (io), B9 PS_MIO51_501 (io), B10 PS_SRST_B_501 (in), B12 PS_MIO48_501 (io), B13 PS_MIO50_501 (io), B14 PS_MIO47_501 (io), B15 PS_MIO45_501 (io), B17 PS_MIO22_501 (io), B18 PS_MIO18_501 (io), C5 PS_MIO14_500 (io), C6 PS_MIO11_500 (io), C7 PS_POR_B_500 (in), C8 PS_MIO15_500 (io), C10 PS_MIO52_501 (io), C11 PS_MIO53_501 (io), C12 PS_MIO49_501 (io), C13 PS_MIO29_501 (io), C15 PS_MIO30_501 (io), C16 PS_MIO28_501 (io), C17 PS_MIO41_501 (io), C18 PS_MIO39_501 (io), D5 PS_MIO8_500 (io), D6 PS_MIO3_500 (io), D8 PS_MIO7_500 (io), D9 PS_MIO12_500 (io), D10 PS_MIO19_501 (io), D11 PS_MIO23_501 (io), D13 PS_MIO27_501 (io), D14 PS_MIO40_501 (io), D15 PS_MIO33_501 (io), D16 PS_MIO46_501 (io), E6 PS_MIO0_500 (io), E7 PS_CLK_500 (in), E8 PS_MIO13_500 (io), E9 PS_MIO10_500 (io), E12 PS_MIO42_501 (io), E13 PS_MIO38_501 (io), E14 PS_MIO17_501 (io), E16 PS_MIO31_501 (io), F6 TDO_0 (out), F9 TCK_0 (in), F12 PS_MIO35_501 (io), F13 PS_MIO44_501 (io), F14 PS_MIO21_501 (io), F15 PS_MIO25_501 (io), G6 TDI_0 (in), J6 TMS_0 (in), L6 PROGRAM_B_0 (in), R10 INIT_B_0 (io), R11 DONE_0 (io)
part B pins: A1 PS_DDR_DM0_502 (out), A2 PS_DDR_DQ2_502 (io), A4 PS_DDR_DQ3_502 (io), B2 PS_DDR_DQS_N0_502 (io), B3 PS_DDR_DQ1_502 (io), B4 PS_DDR_DRST_B_502 (out), C1 PS_DDR_DQ6_502 (io), C2 PS_DDR_DQS_P0_502 (io), C3 PS_DDR_DQ0_502 (io), D1 PS_DDR_DQ5_502 (io), D3 PS_DDR_DQ4_502 (io), D4 PS_DDR_A13_502 (out), E1 PS_DDR_DQ7_502 (io), E2 PS_DDR_DQ8_502 (io), E3 PS_DDR_DQ9_502 (io), E4 PS_DDR_A12_502 (out), F1 PS_DDR_DM1_502 (out), F2 PS_DDR_DQS_N1_502 (io), F4 PS_DDR_A14_502 (out), F5 PS_DDR_A10_502 (out), G2 PS_DDR_DQS_P1_502 (io), G3 PS_DDR_DQ10_502 (io), G4 PS_DDR_A11_502 (out), G5 PS_DDR_VRN_502 (out), H1 PS_DDR_DQ14_502 (io), H2 PS_DDR_DQ13_502 (io), H3 PS_DDR_DQ11_502 (io), H5 PS_DDR_VRP_502 (out), H6 PS_DDR_VREF0_502 (power), J1 PS_DDR_DQ15_502 (io), J3 PS_DDR_DQ12_502 (io), J4 PS_DDR_A9_502 (out), J5 PS_DDR_BA2_502 (out), K1 PS_DDR_A8_502 (out), K2 PS_DDR_A1_502 (out), K3 PS_DDR_A3_502 (out), K4 PS_DDR_A7_502 (out), L1 PS_DDR_A5_502 (out), L2 PS_DDR_CKP_502 (out), L4 PS_DDR_A6_502 (out), L5 PS_DDR_BA0_502 (out), M2 PS_DDR_CKN_502 (out), M3 PS_DDR_A2_502 (out), M4 PS_DDR_A4_502 (out), M5 PS_DDR_WE_B_502 (out), N1 PS_DDR_CS_B_502 (out), N2 PS_DDR_A0_502 (out), N3 PS_DDR_CKE_502 (out), N5 PS_DDR_ODT_502 (out), P1 PS_DDR_DQ16_502 (io), P3 PS_DDR_DQ17_502 (io), P4 PS_DDR_RAS_B_502 (out), P5 PS_DDR_CAS_B_502 (out), P6 PS_DDR_VREF1_502 (power), R1 PS_DDR_DQ19_502 (io), R2 PS_DDR_DQS_P2_502 (io), R3 PS_DDR_DQ18_502 (io), R4 PS_DDR_BA1_502 (out), T1 PS_DDR_DM2_502 (out), T2 PS_DDR_DQS_N2_502 (io), T4 PS_DDR_DQ20_502 (io), U2 PS_DDR_DQ22_502 (io), U3 PS_DDR_DQ23_502 (io), U4 PS_DDR_DQ21_502 (io), V1 PS_DDR_DQ24_502 (io), V2 PS_DDR_DQ30_502 (io), V3 PS_DDR_DQ31_502 (io), W1 PS_DDR_DQ26_502 (io), W3 PS_DDR_DQ29_502 (io), W4 PS_DDR_DQS_N3_502 (io), W5 PS_DDR_DQS_P3_502 (io), Y1 PS_DDR_DM3_502 (out), Y2 PS_DDR_DQ28_502 (io), Y3 PS_DDR_DQ25_502 (io), Y4 PS_DDR_DQ27_502 (io)
part C pins: A20 IO_L2N_T0_AD8N_35 (io), B19 IO_L2P_T0_AD8P_35 (io), B20 IO_L1N_T0_AD0N_35 (io), C20 IO_L1P_T0_AD0P_35 (io), D18 IO_L3N_T0_DQS_AD1N_35 (io), D19 IO_L4P_T0_35 (io), D20 IO_L4N_T0_35 (io), E17 IO_L3P_T0_DQS_AD1P_35 (io), E18 IO_L5P_T0_AD9P_35 (io), E19 IO_L5N_T0_AD9N_35 (io), F16 IO_L6P_T0_35 (io), F17 IO_L6N_T0_VREF_35 (io), F19 IO_L15P_T2_DQS_AD12P_35 (io), F20 IO_L15N_T2_DQS_AD12N_35 (io), G14 IO_0_35 (io), G15 IO_L19N_T3_VREF_35 (io), G17 IO_L16P_T2_35 (io), G18 IO_L16N_T2_35 (io), G19 IO_L18P_T2_AD13P_35 (io), G20 IO_L18N_T2_AD13N_35 (io), H15 IO_L19P_T3_35 (io), H16 IO_L13P_T2_MRCC_35 (io), H17 IO_L13N_T2_MRCC_35 (io), H18 IO_L14N_T2_AD4N_SRCC_35 (io), H20 IO_L17N_T2_AD5N_35 (io), J14 IO_L20N_T3_AD6N_35 (io), J15 IO_25_35 (io), J16 IO_L24N_T3_AD15N_35 (io), J18 IO_L14P_T2_AD4P_SRCC_35 (io), J19 IO_L10N_T1_AD11N_35 (io), J20 IO_L17P_T2_AD5P_35 (io), K14 IO_L20P_T3_AD6P_35 (io), K16 IO_L24P_T3_AD15P_35 (io), K17 IO_L12P_T1_MRCC_35 (io), K18 IO_L12N_T1_MRCC_35 (io), K19 IO_L10P_T1_AD11P_35 (io), L14 IO_L22P_T3_AD7P_35 (io), L15 IO_L22N_T3_AD7N_35 (io), L16 IO_L11P_T1_SRCC_35 (io), L17 IO_L11N_T1_SRCC_35 (io), L19 IO_L9P_T1_DQS_AD3P_35 (io), L20 IO_L9N_T1_DQS_AD3N_35 (io), M14 IO_L23P_T3_35 (io), M15 IO_L23N_T3_35 (io), M17 IO_L8P_T1_AD10P_35 (io), M18 IO_L8N_T1_AD10N_35 (io), M19 IO_L7P_T1_AD2P_35 (io), M20 IO_L7N_T1_AD2N_35 (io), N15 IO_L21P_T3_DQS_AD14P_35 (io), N16 IO_L21N_T3_DQS_AD14N_35 (io), N17 IO_L23P_T3_34 (io), N18 IO_L13P_T2_MRCC_34 (io), N20 IO_L14P_T2_SRCC_34 (io), P14 IO_L6P_T0_34 (io), P15 IO_L24P_T3_34 (io), P16 IO_L24N_T3_34 (io), P18 IO_L23N_T3_34 (io), P19 IO_L13N_T2_MRCC_34 (io), P20 IO_L14N_T2_SRCC_34 (io), R14 IO_L6N_T0_VREF_34 (io), R16 IO_L19P_T3_34 (io), R17 IO_L19N_T3_VREF_34 (io), R18 IO_L20N_T3_34 (io), R19 IO_0_34 (io), T10 IO_L1N_T0_34 (io), T11 IO_L1P_T0_34 (io), T12 IO_L2P_T0_34 (io), T14 IO_L5P_T0_34 (io), T15 IO_L5N_T0_34 (io), T16 IO_L9P_T1_DQS_34 (io), T17 IO_L20P_T3_34 (io), T19 IO_25_34 (io), T20 IO_L15P_T2_DQS_34 (io), U12 IO_L2N_T0_34 (io), U13 IO_L3P_T0_DQS_PUDC_B_34 (io), U14 IO_L11P_T1_SRCC_34 (io), U15 IO_L11N_T1_SRCC_34 (io), U17 IO_L9N_T1_DQS_34 (io), U18 IO_L12P_T1_MRCC_34 (io), U19 IO_L12N_T1_MRCC_34 (io), U20 IO_L15N_T2_DQS_34 (io), V12 IO_L4P_T0_34 (io), V13 IO_L3N_T0_DQS_34 (io), V15 IO_L10P_T1_34 (io), V16 IO_L18P_T2_34 (io), V17 IO_L21P_T3_DQS_34 (io), V18 IO_L21N_T3_DQS_34 (io), V20 IO_L16P_T2_34 (io), W13 IO_L4N_T0_34 (io), W14 IO_L8P_T1_34 (io), W15 IO_L10N_T1_34 (io), W16 IO_L18N_T2_34 (io), W18 IO_L22P_T3_34 (io), W19 IO_L22N_T3_34 (io), W20 IO_L16N_T2_34 (io), Y14 IO_L8N_T1_34 (io), Y16 IO_L7P_T1_34 (io), Y17 IO_L7N_T1_34 (io), Y18 IO_L17P_T2_34 (io), Y19 IO_L17N_T2_34 (io)
part D pins: A3 VCCO_DDR_502 (power), A8 GND, A13 VCCO_MIO1_501 (power), A18 GND, B1 GND, B6 VCCO_MIO0_500 (power), B11 GND, B16 VCCO_MIO1_501 (power), C4 GND, C9 GND, C14 GND, C19 VCCO_35 (power), D2 VCCO_DDR_502 (power), D7 VCCO_MIO0_500 (power), D12 VCCO_MIO1_501 (power), D17 GND, E5 VCCO_DDR_502 (power), E10 GND, E11 PS_MIO_VREF_501 (power), E15 VCCO_MIO1_501 (power), E20 GND, F3 GND, F7 GND, F8 VCCPAUX (power), F10 RSVDGND, F11 VCCBATT_0 (power), F18 VCCO_35 (power), G1 VCCO_DDR_502 (power), G7 VCCPINT (power), G8 VCCPLL (power), G9 VCCPAUX (power), G10 GND, G11 VCCBRAM (power), G12 GND, G13 VCCINT (power), G16 GND, H4 VCCO_DDR_502 (power), H7 GND, H8 VCCPAUX (power), H9 GND, H10 VCCBRAM (power), H11 GND, H12 VCCINT (power), H13 GND, H14 VCCO_35 (power), H19 GND, J2 GND, J7 VCCPINT (power), J8 GND, J9 VCCADC_0 (power), J10 GNDADC_0, J11 VCCAUX (power), J12 GND, J13 VCCINT (power), J17 VCCO_35 (power), K5 GND, K6 VCCO_0 (power), K7 GND, K8 VCCPAUX (power), K9 VP_0 (in), K10 VREFN_0 (power), K11 GND, K12 VCCINT (power), K13 GND, K15 GND, K20 VCCO_35 (power), L3 VCCO_DDR_502 (power), L7 VCCPINT (power), L8 GND, L9 VREFP_0 (power), L10 VN_0 (in), L11 VCCAUX (power), L12 GND, L13 VCCINT (power), L18 GND, M1 GND, M6 CFGBVS_0 (in), M7 GND, M8 VCCPAUX (power), M9 DXP_0, M10 DXN_0, M11 GND, M12 VCCINT (power), M13 GND, M16 VCCO_35 (power), N4 GND, N6 RSVDVCC3 (power), N7 VCCPINT (power), N8 GND, N9 VCCAUX (power), N10 GND, N11 VCCAUX (power), N12 GND, N13 VCCINT (power), N14 GND, N19 VCCO_34 (power), P2 VCCO_DDR_502 (power), P7 GND, P8 VCCPINT (power), P9 GND, P10 VCCAUX (power), P11 GND, P12 VCCINT (power), P13 GND, P17 GND, R5 VCCO_DDR_502 (power), R6 RSVDVCC2 (power), R7 VCCPINT (power), R8 GND, R9 VCCAUX (power), R12 GND, R13 VCCINT (power), R15 VCCO_34 (power), R20 GND, T3 GND, T6 RSVDVCC1 (io), T7 GND, T8 VCCO_13 (power), T13 GND, T18 VCCO_34 (power), U1 VCCO_DDR_502 (power), U6 GND, U11 VCCO_13 (power), U16 GND, V4 VCCO_DDR_502 (power), V9 GND, V14 VCCO_34 (power), V19 GND, W2 GND, W7 VCCO_13 (power), W12 GND, W17 VCCO_34 (power), Y5 GND, Y10 VCCO_13 (power), Y15 GND, Y20 VCCO_34 (power)